# EAGLE library part DERM (library ERM2004)
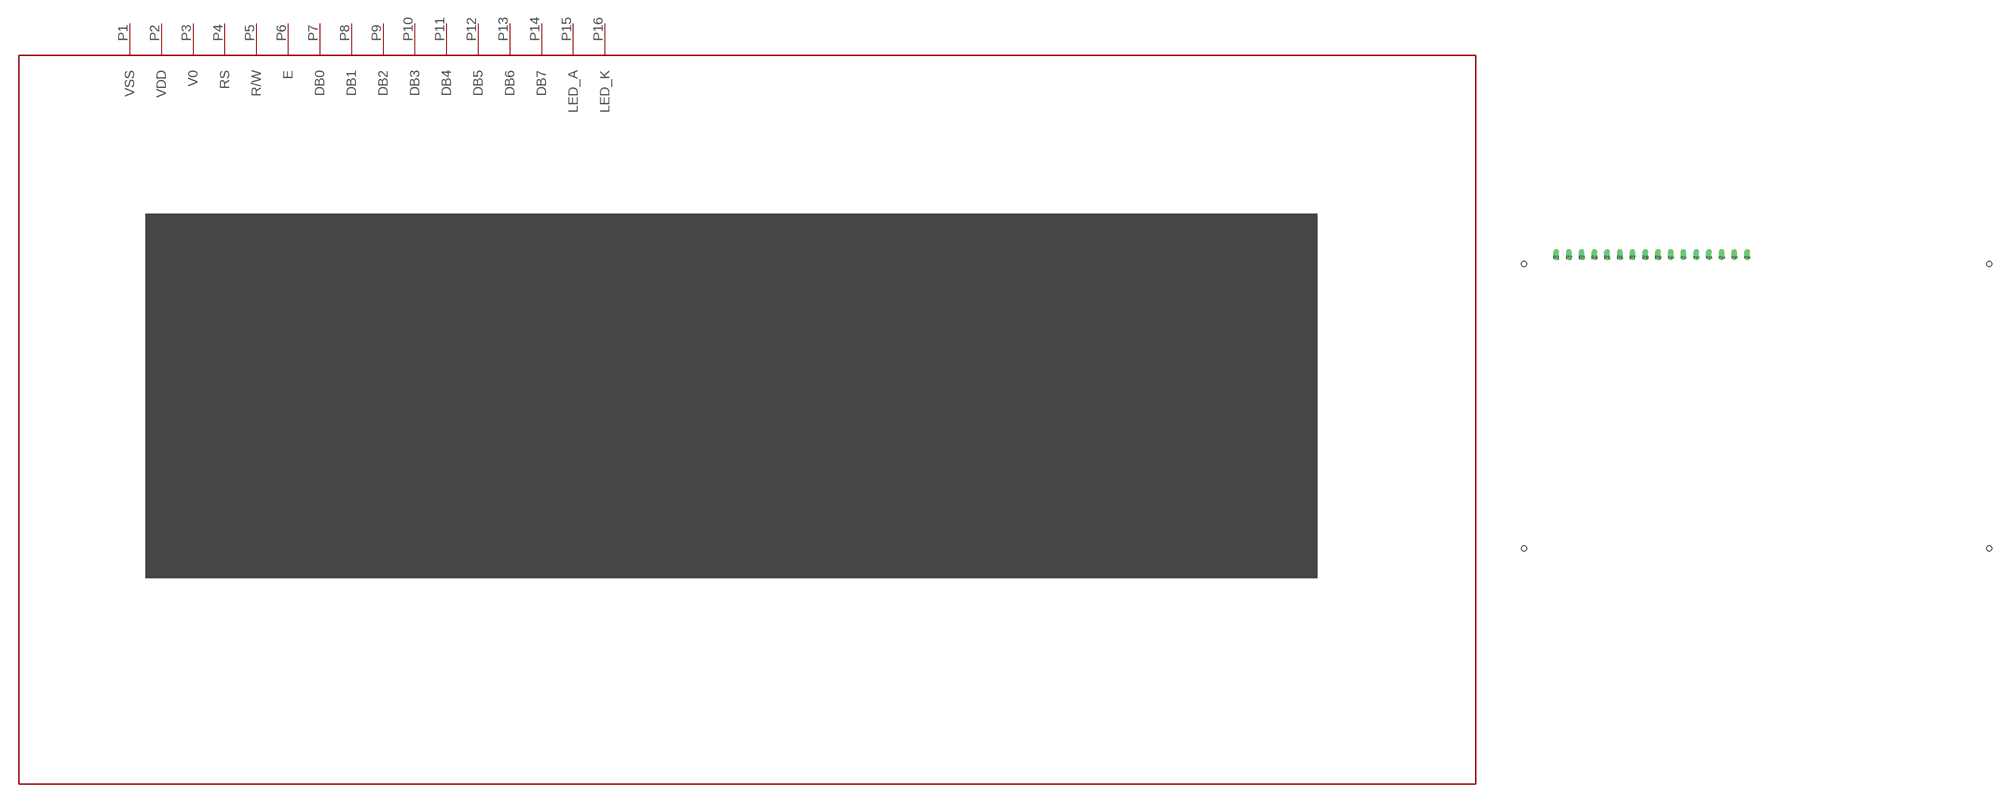
[diagram p0: symbol with the pads of FPERM; footprint FPERM]

Designator prefix -

## DERM  [FPERM]
P1  VSS
P2  VDD
P3  V0
P4  RS
P5  R/W
P6  E
P7  DB0
P8  DB1
P9  DB2
P10  DB3
P11  DB4
P12  DB5
P13  DB6
P14  DB7
P15  LED_A
P16  LED_K

## Footprint FPERM (pad centres in mm)
drill 0.6 offset: P1 -25.4,2.54; P2 -22.9,2.54; P3 -20.4,2.54; P4 -17.9,2.54; P5 -15.4,2.54; P6 -12.9,2.54; P7 -10.4,2.54; P8 -7.9,2.54; P9 -5.4,2.54; P10 -2.9,2.54; P11 -0.4,2.54; P12 2.1,2.54; P13 4.6,2.54; P14 7.1,2.54; P15 9.6,2.54; P16 12.1,2.54
hole 1 at -31.75,1.27
hole 1 at -31.75,-54.61
hole 1 at 59.69,-54.61
hole 1 at 59.69,1.27